# EAGLE library part LED-RGB-6P-SMD (library Discrete)
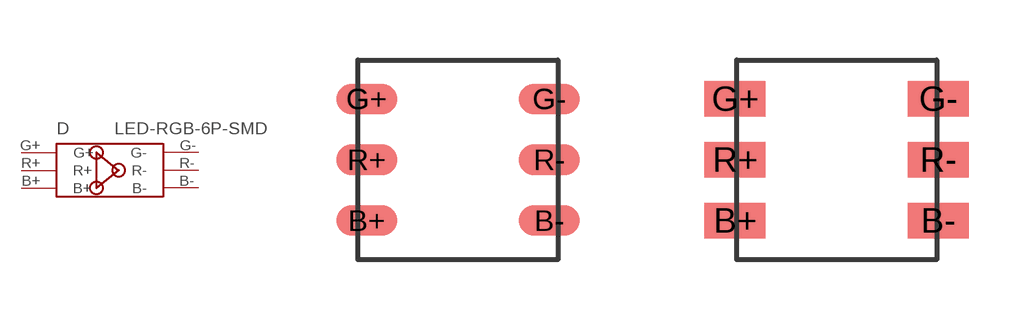
[diagram p10: symbol with the pads of LED-6P-SMD-5050; footprints LED-6P-SMD-5050, LED-6P-SMD-5X5]

Designator prefix D

## LED-RGB-6P-SMD-5050  [LED-6P-SMD-5050]
B+  B+
B-  B-
G+  G+
G-  G-
R+  R+
R-  R-

## LED-RGB-6P-SMD-WL  [LED-6P-SMD-5X5]
Pads as for LED-6P-SMD-5050

## Footprint LED-6P-SMD-5050 (pad centres in mm)
smd 1.524 x 0.762: B+ -2.286,-1.524; B- 2.286,-1.524; G+ -2.286,1.524; G- 2.286,1.524; R+ -2.286,0; R- 2.286,0

## Footprint LED-6P-SMD-5X5 (pad centres in mm)
smd 1.524 x 0.889: B+ -2.54,-1.524; B- 2.54,-1.524; G+ -2.54,1.524; G- 2.54,1.524; R+ -2.54,0; R- 2.54,0